# EAGLE library part FTDI (library Webmaster442)
PIN HEADER
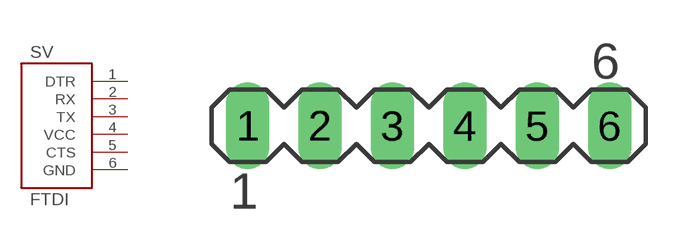
[diagram p25: symbol with the pads of MA06-1; footprint MA06-1]

Designator prefix SV

## FTDI (OC_FARNELL: unknown; OC_NEWARK: unknown)  [MA06-1]
1  DTR
2  RX
3  TX
4  VCC
5  CTS
6  GND

## Footprint MA06-1 (pad centres in mm)
PIN HEADER
drill 1.016 long: 1 -6.35,0; 2 -3.81,0; 3 -1.27,0; 4 1.27,0; 5 3.81,0; 6 6.35,0